# Altium footprint library PCB_Mechanical.PcbLib: 10 footprints
Each footprint in its own frame and in the unit in brackets; x right, y up, seen from the top. Pads: shape width x height; smd on the part's side, far side on the other; paste and mask are expansions set on the pad; w line width, h text height; cw(c..) or ccw(c..) is an arc to the next point about the centre after c.
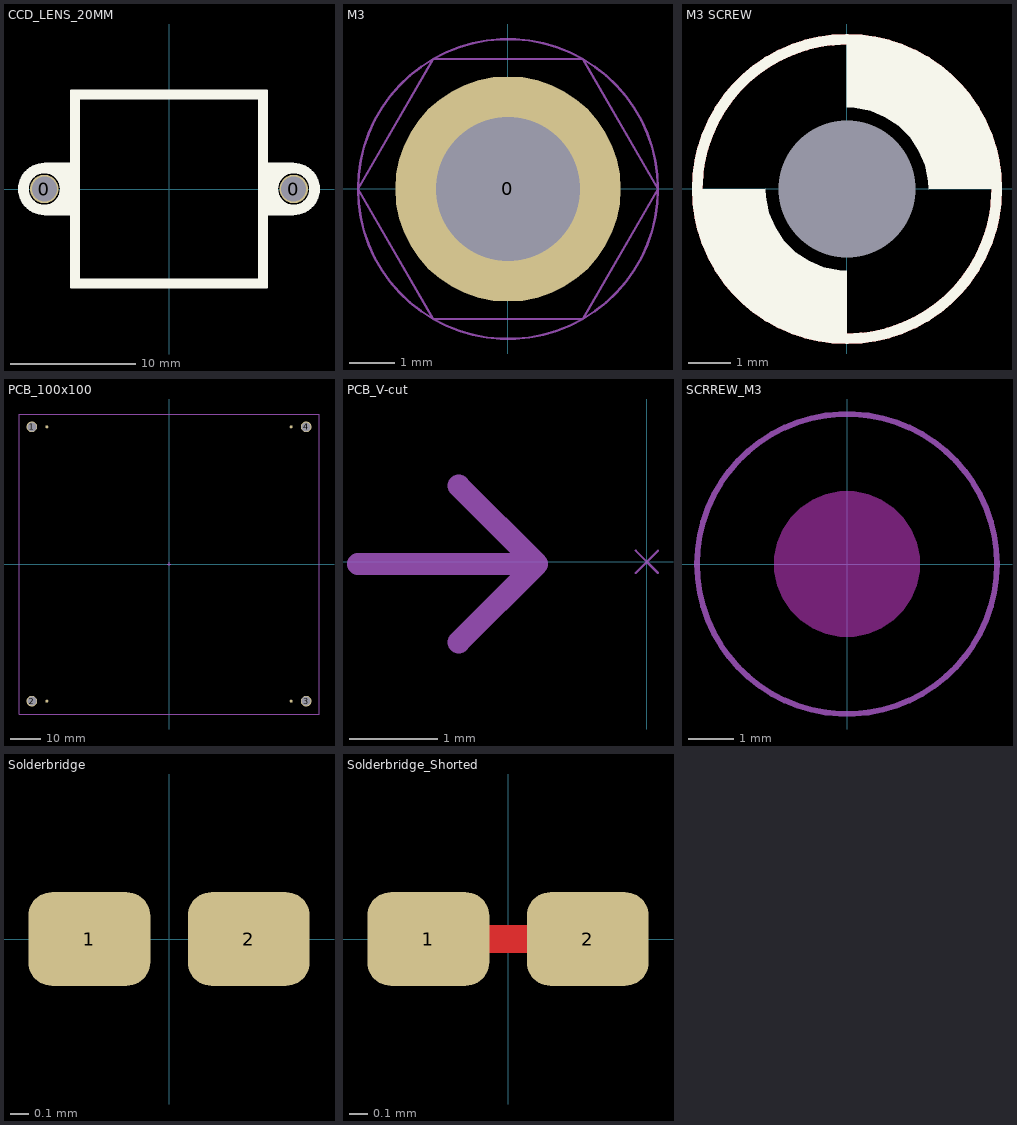
[diagram p0: the footprints below, top view; thin cyan lines are the x and y axes]

## 3D_SCREW_M3_8 [mil]
3D body "User Library-M3x0_5xL Phillips Panhead Screw7mm.STEP": height 93.73, standoff -275.59, extent -110.23,-110.23 110.24,110.25

## CCD_LENS_20MM [mil]
pads (2):
  round 90 hole 78.74 mask+0: 0(-393.7,0) 0(393.7,0)
Top Overlay:
  circle w6: c-393.7,0 r52
  circle w6: c393.7,0 r52
  region: -310,312 310,312 310,-312 -310,-312 -310,312 -284,286 -284,-286 284,-286 284,286 -284,286
  region: 393.7,80 401.58,80 417.04,76.93 431.6,70.89 444.7,62.14 455.84,51 464.6,37.89 470.63,23.34 473.7,7.88 473.7,-7.88 470.63,-23.34 464.6,-37.89 455.84,-51 444.7,-62.14 431.6,-70.89 417.04,-76.93 401.58,-80 393.7,-80 393.7,-52 400.49,-51.56 413.6,-48.04 425.36,-41.25 434.96,-31.66 441.74,-19.9 445.26,-6.79 445.26,6.79 441.74,19.9 434.96,31.66 425.36,41.25 413.6,48.04 400.49,51.56 393.7,52
  region: 393.7,52 386.91,51.56 373.8,48.04 362.05,41.25 352.45,31.66 345.66,19.9 342.15,6.79 342.15,-6.79 345.66,-19.9 352.45,-31.66 362.05,-41.25 373.8,-48.04 386.91,-51.56 393.7,-52 393.7,-80 310,-80 310,80 393.7,80
  region: -393.7,-52 -386.91,-51.56 -373.8,-48.04 -362.05,-41.25 -352.45,-31.66 -345.66,-19.9 -342.15,-6.79 -342.15,6.79 -345.66,19.9 -352.45,31.66 -362.05,41.25 -373.8,48.04 -386.91,51.56 -393.7,52 -393.7,80 -310,80 -310,-80 -393.7,-80
  region: -393.7,-80 -401.58,-80 -417.04,-76.93 -431.6,-70.89 -444.7,-62.14 -455.84,-51 -464.6,-37.89 -470.63,-23.34 -473.7,-7.88 -473.7,7.88 -470.63,23.34 -464.6,37.89 -455.84,51 -444.7,62.14 -431.6,70.89 -417.04,76.93 -401.58,80 -393.7,80 -393.7,52 -400.49,51.56 -413.6,48.04 -425.36,41.25 -434.96,31.66 -441.74,19.9 -445.26,6.79 -445.26,-6.79 -441.74,-19.9 -434.96,-31.66 -425.36,-41.25 -413.6,-48.04 -400.49,-51.56 -393.7,-52
  lines w6: -393.7,-52 -393.7,-80 ; -393.7,52 -393.7,80 ; 393.7,-52 393.7,-80 ; 393.7,52 393.7,80 ; -393.7,-80 cw(c-393.7,0) -393.7,80 ; -393.7,-80 -310,-80 ; -393.7,80 -310,80 ; -310,-80 -310,-312 310,-312 310,-80 ; -310,-80 -310,80 ; -310,80 -310,312 310,312 310,80 ; 310,-80 393.7,-80 ; 310,-80 310,80 ; 310,80 393.7,80 ; 393.7,-80 ccw(c393.7,0) 393.7,80 ; 393.7,80 393.7,80 ; -284,-286 284,-286 284,286 -284,286 -284,-286

## M3 [mm]
pads (1):
  round 5 hole 3.2 unplated mask+0: 0(0,0)
Mechanical 13:
  circle w0.051: c0,0 r3.327
  lines w0.051: -3.327,0 -1.663,2.881 1.663,2.881 3.327,0 1.663,-2.881 -1.663,-2.881 -3.327,0

## M3 SCREW [mm]
pads (1):
  round 0 hole 3.2 unplated: 1(0,0)
Top Layer:
  circle w0.254: c0,0 r3.5
Bottom Layer:
  circle w0.2: c0,0 r3.5
Top Overlay:
  circle w0.254: c0,0 r3.5
  region: 0,-3.505 -0.229,-3.505 -0.684,-3.445 -1.127,-3.327 -1.551,-3.151 -1.949,-2.922 -2.313,-2.642 -2.637,-2.318 -2.916,-1.954 -3.146,-1.557 -3.321,-1.133 -3.44,-0.69 -3.5,-0.235 -3.5,-0.005 -1.905,0 -1.896,-0.187 -1.823,-0.553 -1.68,-0.898 -1.473,-1.209 -1.209,-1.473 -0.898,-1.68 -0.553,-1.823 -0.187,-1.896 0,-1.905
  region: 0,3.505 0.229,3.505 0.684,3.445 1.127,3.327 1.551,3.151 1.949,2.922 2.313,2.642 2.637,2.318 2.916,1.954 3.146,1.557 3.321,1.133 3.44,0.69 3.5,0.235 3.5,0.005 1.905,0 1.896,0.187 1.823,0.553 1.68,0.898 1.473,1.209 1.209,1.473 0.898,1.68 0.553,1.823 0.187,1.896 0,1.905
B-Component:
  lines w0.1: -0.381,0 0.381,0 ; 0,-0.381 0,0.381

## PCB_100x100 [mil]
pads (8):
  round 39.37 smd mask+39.37: 0(-1603.15,1800) 0(-1603.15,-1800) 0(1603.15,-1800) 0(1603.15,1800)
  round 140 hole 120 mask+0: 1(-1800,1800) 2(-1800,-1800) 3(1800,-1800) 4(1800,1800)
Mechanical 1:
  lines w1: -1968.5,-1968.5 1968.5,-1968.5 1968.5,1968.5 -1968.5,1968.5 -1968.5,-1968.5
B-Component:
  lines w2: -20,0 20,0 ; 0,-20 0,20

## PCB_V-cut [mil]
Mechanical 1:
  lines w1: -5,-5 5,5 ; -5,5 5,-5
  lines w10: -129.21,-0.98 -49.21,-0.98 ; -84.21,-35.98 -49.21,-0.98 ; -84.21,34.02 -49.21,-0.98
  text "V-Cut" at -414.21,-25.98 h60

## SCRREW_M3 [mil]
height 396
Keep-Out Layer:
  board cut-out: 0,-62.99 -6.2,-62.99 -18.37,-60.57 -29.84,-55.82 -40.16,-48.93 -48.93,-40.16 -55.82,-29.84 -60.57,-18.37 -62.99,-6.2 -62.99,0 -62.99,6.2 -60.57,18.37 -55.82,29.84 -48.93,40.16 -40.16,48.93 -29.84,55.82 -18.37,60.57 -6.2,62.99 0,62.99 6.2,62.99 18.37,60.57 29.84,55.82 40.16,48.93 48.93,40.16 55.82,29.84 60.57,18.37 62.99,6.2 62.99,0 62.99,-6.2 60.57,-18.37 55.82,-29.84 48.93,-40.16 40.16,-48.93 29.84,-55.82 18.37,-60.57 6.2,-62.99
Mechanical 13:
  circle w5: c0,0 r129.92
Multi-Layer:
  pour cut-out: 0,-129.92 -8.52,-129.92 -25.4,-127.7 -41.85,-123.29 -57.59,-116.77 -72.34,-108.26 -85.85,-97.89 -97.89,-85.85 -108.26,-72.34 -116.77,-57.59 -123.29,-41.85 -127.7,-25.4 -129.92,-8.52 -129.92,0 -129.92,8.52 -127.7,25.4 -123.29,41.85 -116.77,57.59 -108.26,72.34 -97.89,85.85 -85.85,97.89 -72.34,108.26 -57.59,116.77 -41.85,123.29 -25.4,127.7 -8.52,129.92 0,129.92 8.52,129.92 25.4,127.7 41.85,123.29 57.59,116.77 72.34,108.26 85.85,97.89 97.89,85.85 108.26,72.34 116.77,57.59 123.29,41.85 127.7,25.4 129.92,8.52 129.92,0 129.92,-8.52 127.7,-25.4 123.29,-41.85 116.77,-57.59 108.26,-72.34 97.89,-85.85 85.85,-97.89 72.34,-108.26 57.59,-116.77 41.85,-123.29 25.4,-127.7 8.52,-129.92

## Solderbridge [mil]
pads (2):
  rrect50% 26x20 smd: 1(-17,0) 2(17,0)
Top Solder:
  region: 25,12 -25,12 -26.39,12 -28.96,10.94 -30.94,8.97 -32,6.39 -32,5 -32,-5 -32,-6.39 -30.94,-8.97 -28.97,-10.94 -26.39,-12 -25,-12 25,-12 26.39,-12 28.96,-10.94 30.93,-8.97 32,-6.39 32,-5 32,5 32,6.39 30.93,8.96 28.96,10.93 26.39,12

## Solderbridge_Shorted [mil]
pads (2):
  rrect50% 26x20 smd: 1(-17,0) 2(17,0)
Top Layer:
  lines w6: -17,0 17,0
Top Solder:
  region: 25,12 -25,12 -26.39,12 -28.96,10.94 -30.94,8.97 -32,6.39 -32,5 -32,-5 -32,-6.39 -30.94,-8.97 -28.97,-10.94 -26.39,-12 -25,-12 25,-12 26.39,-12 28.96,-10.94 30.93,-8.97 32,-6.39 32,-5 32,5 32,6.39 30.93,8.96 28.96,10.93 26.39,12

## Z_OTHER [mil]
3D body "User Library-CR2032_Holder.STEP": height 220.47, standoff 0, extent -633.86,-314.96 633.86,314.96
3D body "User Library-M3x0_5xL Phillips Panhead Screw4mm.STEP": height 93.73, standoff -157.48, extent -17.47,-824.47 203,-604
3D body "User Library-Female screw M3.STEP": height 118.11, standoff 0, extent -89.27,-912.35 138,-713.65